# EAGLE library part ACS712 (library heph_custom_comp)
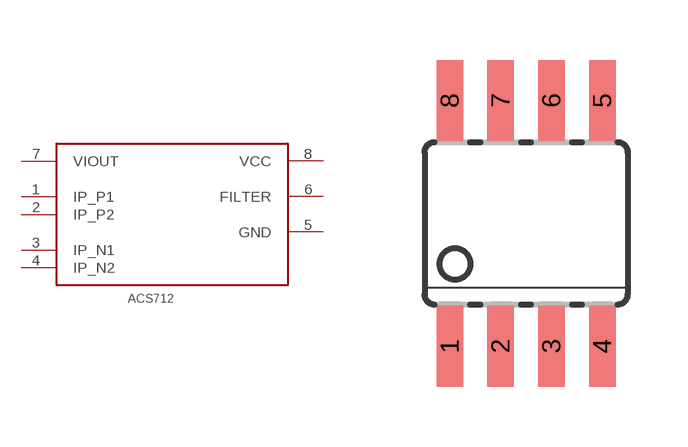
[diagram p1: symbol with the pads of SOIC-08; footprint SOIC-08]

Designator prefix -

## ACS712  [SOIC-08]
1  IP_P1
2  IP_P2
3  IP_N1
4  IP_N2
5  GND
6  FILTER
7  VIOUT
8  VCC

## Footprint SOIC-08 (pad centres in mm)
smd 0.66 x 2.032: 1 -1.905,-3.073; 2 -0.635,-3.073; 3 0.635,-3.073; 4 1.905,-3.073; 5 1.905,3.073; 6 0.635,3.073; 7 -0.635,3.073; 8 -1.905,3.073